# Altium schematic symbol library Varistor (VDR).SchLib: 1 symbol
Pins are listed as number, name and electrical type; pins without a type are passive.

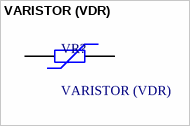
[diagram p0: symbol VARISTOR (VDR)]

## VARISTOR (VDR)
designator VR?
VARISTORS; DatasheetVersion: 2022
pins: 1, 2